# EAGLE library part RFM75 (library skatemate)
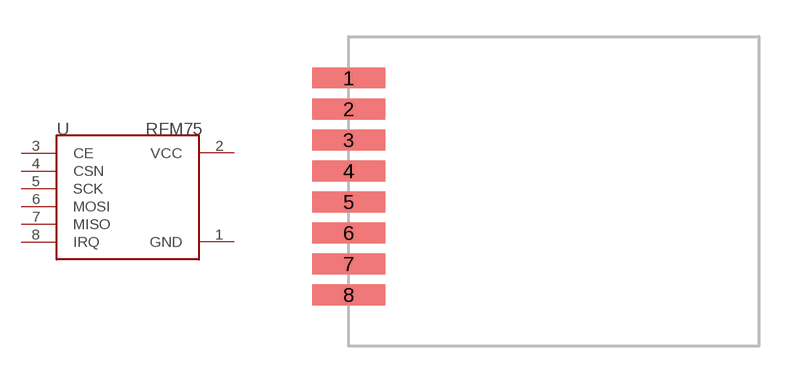
[diagram p5: symbol with the pads of RFM75; footprint RFM75]

Designator prefix U

## RFM75  [RFM75]
1  GND
2  VCC
3  CE
4  CSN
5  SCK
6  MOSI
7  MISO
8  IRQ

## Footprint RFM75 (pad centres in mm)
smd 3 x 0.85: 1 0,0; 2 0,-1.27; 3 0,-2.54; 4 0,-3.81; 5 0,-5.08; 6 0,-6.35; 7 0,-7.62; 8 0,-8.89